# EAGLE library part 250-109 (library custom_library)
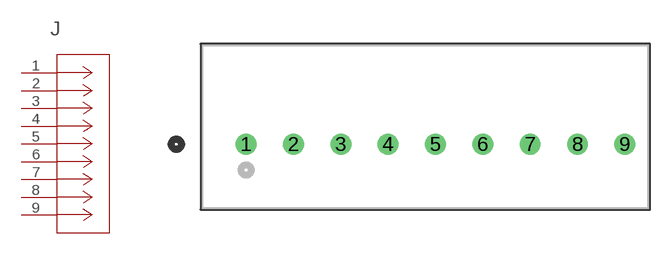
[diagram p4: symbol with the pads of CONN_250-109_WAG; footprint CONN_250-109_WAG]

Designator prefix J

## 250-109 (COPYRIGHT: Copyright (C) 2024 Ultra Librarian. All rights reserved.; MANUFACTURER_PART_NUMBER: 250-109; MFR_NAME: Wago)  [CONN_250-109_WAG]
1  1  pas
2  2  pas
3  3  pas
4  4  pas
5  5  pas
6  6  pas
7  7  pas
8  8  pas
9  9  pas

## Footprint CONN_250-109_WAG (pad centres in mm)
drill 1.016 pad 1.524: 1 0,0; 2 3.505,0; 3 7.01,0; 4 10.49,0; 5 13.995,0; 6 17.501,0; 7 21.006,0; 8 24.511,0; 9 27.991,0